# Altium schematic symbol library RF.SchLib: 2 symbols
Pins are listed as number, name and electrical type; pins without a type are passive.

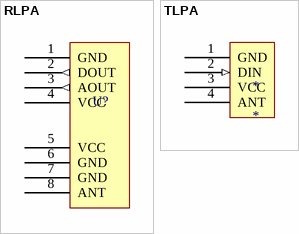
[diagram p0: symbols RLPA to TLPA]

## RLPA
designator U?  (value not drawn)
pins: 1 GND (power), 2 DOUT (out), 3 AOUT (out), 4 VCC (power), 5 VCC (power), 6 GND (power), 7 GND (power), 8 ANT (power)

## TLPA
designator *
pins: 1 GND (power), 2 DIN (in), 3 VCC (power), 4 ANT